# EAGLE library part PAPILIO_8BIT_SEGMENT (library GadgetFactory_v1)
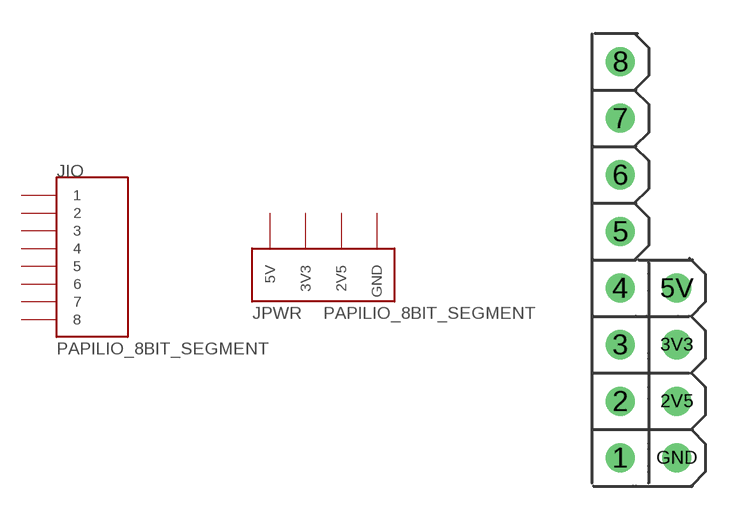
[diagram p10: symbol with the pads of COCOON_8BIT_SEGMENT; footprint COCOON_8BIT_SEGMENT]

Designator prefix J; gates IO=COCOON_8BIT_SEGMENT PWR=COCOON_SEGMENT_POWER

## PAPILIO_8BIT_SEGMENT  [COCOON_8BIT_SEGMENT]
1  IO:1
2  IO:2
2V5  PWR:2V5  pwr
3  IO:3
3V3  PWR:3V3  pwr
4  IO:4
5  IO:5
5V  PWR:5V  pwr
6  IO:6
7  IO:7
8  IO:8
GND  PWR:GND  pwr

## Footprint COCOON_8BIT_SEGMENT (pad centres in mm)
drill 0.8: 1 -1.27,-8.89; 2 -1.27,-6.35; 2V5 1.27,-6.35; 3 -1.27,-3.81; 3V3 1.27,-3.81; 4 -1.27,-1.27; 5 -1.27,1.27; 5V 1.27,-1.27; 6 -1.27,3.81; 7 -1.27,6.35; 8 -1.27,8.89; GND 1.27,-8.89